# Altium schematic symbol library 24V_Power.SchLib: 15 symbols
Pins are listed as number, name and electrical type; pins without a type are passive.

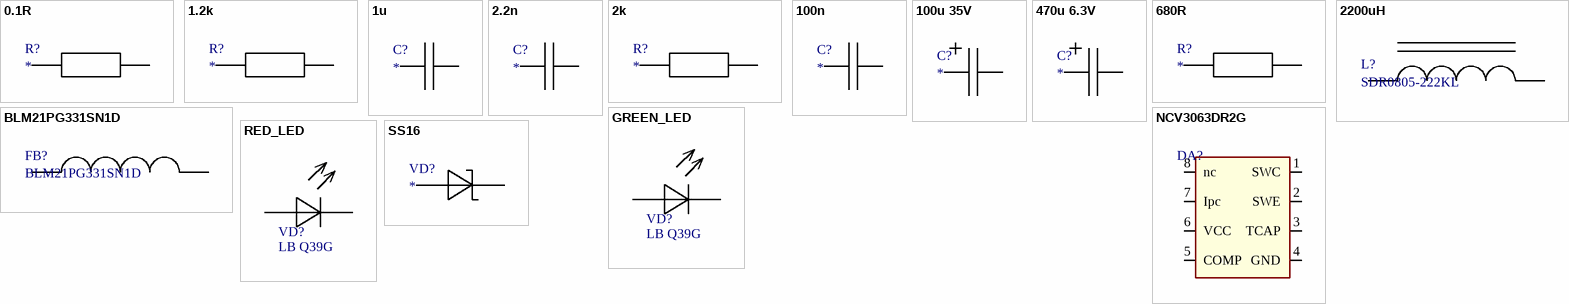
[diagram p0: symbols 0.1R to SS16]

## 0.1R
designator R?
Reisitor 1206
footprint R1206 (Chip Resistor, 2-Leads, Body 3.10x1.55mm, IPC Medium Density)
pins: 1, 2

## 1.2k
designator R?
Resistor 0603
footprint R0603 (Chip Resistor, 2-Leads, Body 1.60x0.80mm, IPC Medium Density)
pins: 1, 2

## 1u
designator C?
Capasitor 1206
footprint C1206 (Chip Capacitor, 2-Leads, Body 3.10x1.55mm, IPC Medium Density)
pins: 1, 2

## 2.2n
designator C?
Capasitor 0603
footprint C0603 (Chip Capacitor, 2-Leads, Body 1.60x0.80mm, IPC Medium Density)
pins: 1, 2

## 2k
designator R?
Resistor 0603
footprint R0603 (Chip Resistor, 2-Leads, Body 1.60x0.80mm, IPC Medium Density)
pins: 1, 2

## 100n
designator C?
Capasitor 0603
footprint C0603 (Chip Capacitor, 2-Leads, Body 1.60x0.80mm, IPC Medium Density)
pins: 1, 2

## 100u 35V
designator C?
Capasitor
footprint C8*12-3.5
pins: 1, 2

## 470u 6.3V
designator C?
Capasitor
footprint C6.3*11-2.5
pins: 1, 2

## 680R
designator R?
Resistor 0603
footprint R0603 (Chip Resistor, 2-Leads, Body 1.60x0.80mm, IPC Medium Density)
pins: 1, 2

## 2200uH
designator L?, comment SDR0805-222KL
SMD Power Inductor
footprint SDR0805
pins: 1, 2

## BLM21PG331SN1D
designator FB?
Ferrite bead smd
footprint INDC2012X08N (Chip Inductor, 2-Leads, Body 2.00x1.25mm, IPC Medium Density)
pins: 1, 2

## GREEN_LED
designator VD?, comment LB Q39G
Status Led
footprint 0603D_G (LED, SMT, Body 1.6 x 0.8 mm, 0.25mm Thickness)
pins: 1 А "Анод", 2 К "Катод"
2 alternate drawings of the same symbol

## NCV3063DR2G
designator DA?
1.5 A, ADJ, Step-Up/Down/ / Inverting Switching / Regulators, SOIC-8
footprint SOIC-8 NB (SOIC, 8-Leads, Body 5.00x4.00mm, Pitch 1.27mm, IPC Medium Density)
pins: 1 SWC, 2 SWE, 3 TCAP, 4 GND, 5 COMP, 6 VCC, 7 Ipc, 8 nc

## RED_LED
designator VD?, comment LB Q39G
Power Led
footprint 0603D_R (LED, SMT, Body 1.6 x 0.8 mm, 0.25mm Thickness)
pins: 1 А "Анод", 2 К "Катод"
2 alternate drawings of the same symbol

## SS16
designator VD?
Surface Mount Schottky Barrier Rectifier
footprint shotci
pins: 1 А "Анод", 2 К "Катод"